# EAGLE library part RV-3028-C7 (library RV-3028-C7)
Extreme Low Power RTC Module Source: Datasheet <https://www.microcrystal.com/fileadmin/Media/Products/RTC/Datasheet/RV-3028-C7.pdf>
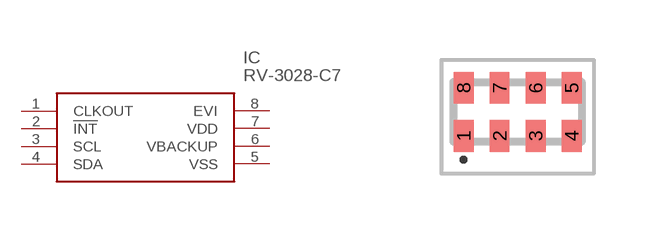
[diagram p0: symbol with the pads of RV3028C732768kHz1ppmTAQC; footprint RV3028C732768kHz1ppmTAQC]

Designator prefix IC

## RV-3028-C7 (Description: Extreme Low Power RTC Module; Height: 0.8mm; Manufacturer_Name: Micro Crystal AG; Manufacturer_Part_Number: RV-3028-C7)  [RV3028C732768kHz1ppmTAQC]
1  CLKOUT
2  !INT
3  SCL
4  SDA
5  VSS
6  VBACKUP
7  VDD
8  EVI

## Footprint RV3028C732768kHz1ppmTAQC (pad centres in mm)
RV-3028-C7
smd 0.5 x 0.8: 1 -1.35,-0.6; 2 -0.45,-0.6; 3 0.45,-0.6; 4 1.35,-0.6; 5 1.35,0.6; 6 0.45,0.6; 7 -0.45,0.6; 8 -1.35,0.6